# Altium footprint library Isolated-ADCs-PCB.PcbLib: 9 footprints
Each footprint in its own frame and in the unit in brackets; x right, y up, seen from the top. Pads: shape width x height; smd on the part's side, far side on the other; paste and mask are expansions set on the pad; w line width, h text height; cw(c..) or ccw(c..) is an arc to the next point about the centre after c.
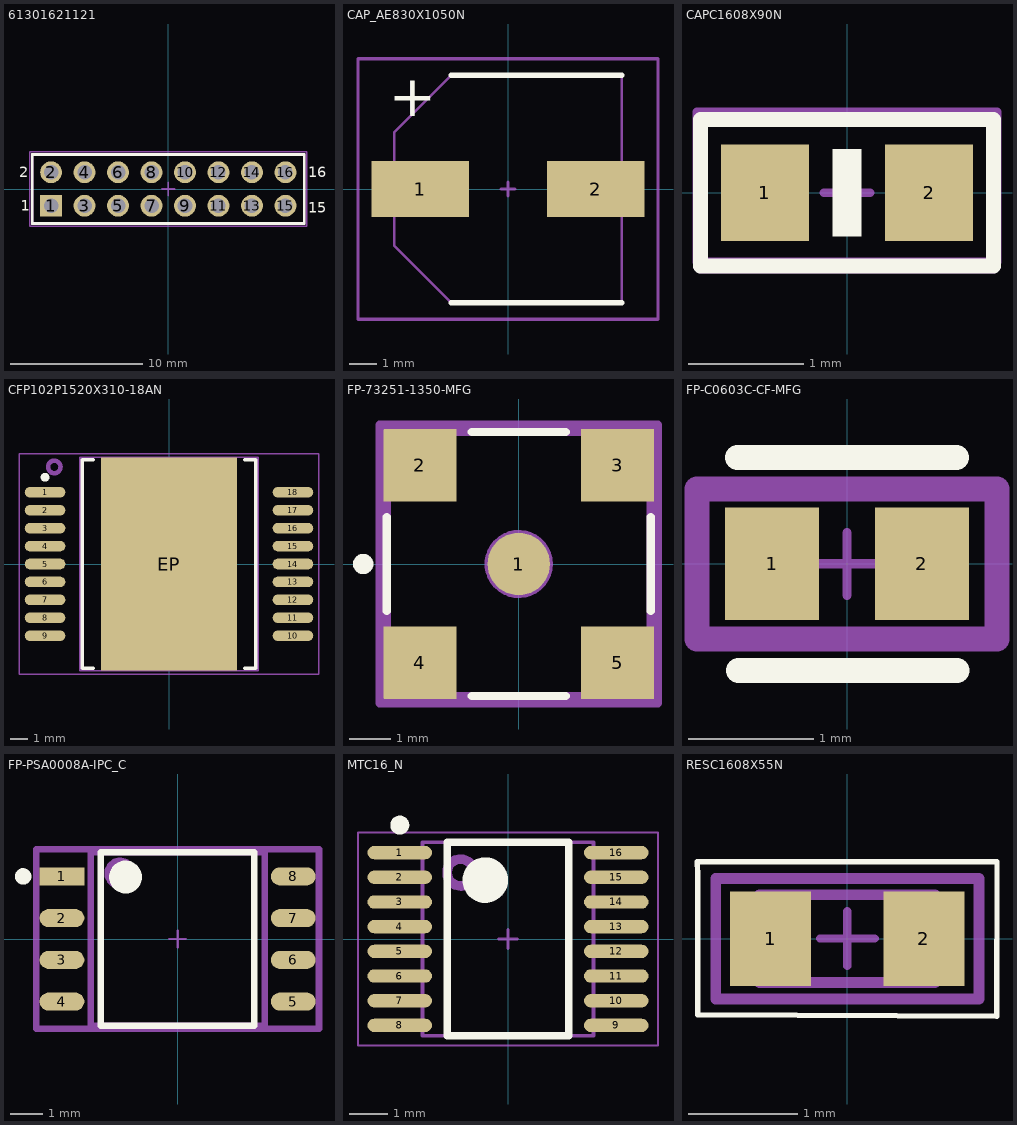
[diagram p0: the footprints below, top view; thin cyan lines are the x and y axes]

## 61301621121 [mm] "Pin Header, pitch 2.54 mm, THT, Vertical, dual row, 16p"
height 8.54
pads (16):
  rect 1.65x1.65 hole 1.1: 1(-8.89,-1.27)
  round 1.65 hole 1.1: 2(-8.89,1.27) 3(-6.35,-1.27) 4(-6.35,1.27) 5(-3.81,-1.27) 6(-3.81,1.27) 7(-1.27,-1.27) 8(-1.27,1.27) 9(1.27,-1.27) 10(1.27,1.27) 11(3.81,-1.27) 12(3.81,1.27) 13(6.35,-1.27) 14(6.35,1.27) 15(8.89,-1.27) 16(8.89,1.27)
Top Overlay:
  lines w0.2: -10.31,-2.615 10.31,-2.615 10.31,2.615 -10.31,2.615 -10.31,-2.615
  text "2" at -11.32,0.9 h0.81
  text "1" at -11.176,-1.651 h0.81
  text "15" at 10.62,-1.8 h0.81
  text "16" at 10.62,0.9 h0.81
Bottom Overlay:
  text "1" at -11.176,-1.651 h0.81
  text "2" at -11.32,0.9 h0.81
  text "16" at 12.12,0.9 h0.81
  text "15" at 12.12,-1.8 h0.81
Top Component Center:
  lines w0.125: -0.5,0 0.5,0 ; 0,-0.5 0,0.5
Top Assembly:
  lines w0.2: -10.31,-2.615 10.31,-2.615 10.31,2.615 -10.31,2.615 -10.31,-2.615
  text "15" at 10.62,-1.8 h0.81
  text "16" at 10.62,0.9 h0.81
  text "1" at -11.176,-1.651 h0.81
  text "2" at -11.32,0.9 h0.81
  text "'.Designator'" at -3.75,3.25 h1.52
Top Courtyard:
  lines w0.125: -10.51,-2.815 -10.51,2.815 10.51,2.815 10.51,-2.815 -10.51,-2.815
3D body "61301621121.stp": height 8.59, standoff -2.95, extent -10.16,-2.54 10.16,2.54

## CAP_AE830X1050N [mm]
pads (2):
  rect 3.55x2.05 smd: 1(-3.2,0) 2(3.2,0)
Top Overlay:
  lines w0.2: -2.075,-4.15 4.15,-4.15 ; -2.075,4.15 4.15,4.15
  text "+" at -4.347,2.652 h1.52
Top Component Center:
  lines w0.125: -0.25,0 0.25,0 ; 0,-0.25 0,0.25
Top Assembly:
  lines w0.1: -4.15,-2.075 -2.075,-4.15 4.15,-4.15 4.15,4.15 -2.075,4.15 -4.15,2.075 -4.15,-2.075
  text "'.Designator'" at -9,4.75 h1.52
  text "+" at -4.406,2.726 h1.52
Top Courtyard:
  lines w0.125: -5.475,-4.75 5.475,-4.75 5.475,4.75 -5.475,4.75 -5.475,-4.75
3D body "865080453012.stp": height 10.5, standoff 0, extent -4.25,-4.25 4.25,4.25

## CAPC1608X90N [mil]
pads (2):
  rect 30x33 smd mask+2: 1(-28,0) 2(28,0)
Top Overlay:
  rectangle: -5,-15 5,15
  lines w5: -50,-25 50,-25 50,25 -50,25 -50,-25
Top Component Center:
  lines w2.95: -7.87,0 7.87,0 ; 0,-7.87 0,7.87
Top Assembly:
  lines w5: -50,-25 50,-25 50,25 -50,25 -50,-25
  text "'.Designator'" at -55.12,39.37 h60
Top Courtyard:
  lines w2.95: -51.18,-23.62 -51.18,27.56 51.18,27.56 51.18,-23.62 -51.18,-23.62
3D body "C1608X6S1C225K080AC.STEP": height 35.43, standoff 0, extent -31.49,-15.75 31.5,15.75

## CFP102P1520X310-18AN [mm]
pads (19):
  oval 2.3x0.6 smd: 1(-7.025,4.064) 2(-7.025,3.048) 3(-7.025,2.032) 4(-7.025,1.016) 5(-7.025,0) 6(-7.025,-1.016) 7(-7.025,-2.032) 8(-7.025,-3.048) 9(-7.025,-4.064) 10(7.025,-4.064) 11(7.025,-3.048) 12(7.025,-2.032) 13(7.025,-1.016) 14(7.025,0) 15(7.025,1.016) 16(7.025,2.032) 17(7.025,3.048) 18(7.025,4.064)
  rect 7.7x12.09 smd paste-5.969: EP(0,0)
Top Overlay:
  circle w0.25: c-7.025,4.914 r0.125
  lines w0.2: -4.3,-5.918 -4.915,-5.918 -4.915,5.918 -4.3,5.918 ; 4.3,-5.918 4.915,-5.918 4.915,5.918 4.3,5.918
Top Paste:
  rectangle: 2.289,-5.711 3.711,-4.289
  rectangle: 2.289,-3.711 3.711,-2.289
  rectangle: 0.289,-5.711 1.711,-4.289
  rectangle: 0.289,-3.711 1.711,-2.289
  rectangle: 2.289,-1.711 3.711,-0.289
  rectangle: 0.289,-1.711 1.711,-0.289
  rectangle: -1.711,-5.711 -0.289,-4.289
  rectangle: -1.711,-3.711 -0.289,-2.289
  rectangle: -3.711,-5.711 -2.289,-4.289
  rectangle: -3.711,-3.711 -2.289,-2.289
  rectangle: -1.711,-1.711 -0.289,-0.289
  rectangle: -3.711,-1.711 -2.289,-0.289
  rectangle: 2.289,0.289 3.711,1.711
  rectangle: 0.289,0.289 1.711,1.711
  rectangle: 2.289,2.289 3.711,3.711
  rectangle: 2.289,4.289 3.711,5.711
  rectangle: 0.289,2.289 1.711,3.711
  rectangle: 0.289,4.289 1.711,5.711
  rectangle: -1.711,0.289 -0.289,1.711
  rectangle: -1.711,2.289 -0.289,3.711
  rectangle: -3.711,0.289 -2.289,1.711
  rectangle: -3.711,2.289 -2.289,3.711
  rectangle: -1.711,4.289 -0.289,5.711
  rectangle: -3.711,4.289 -2.289,5.711
Top Component Center:
  lines w0.075: -0.25,0 0.25,0 ; 0,-0.25 0,0.25
Top Assembly:
  circle w0.254: c-6.5,5.5 r0.354
  lines w0.1: -5.04,-6.045 -5.04,6.045 5.04,6.045 5.04,-6.045 -5.04,-6.045
  text "'.Designator'" at -4.5,7 h1.52
Top Courtyard:
  lines w0.075: -8.5,-6.25 8.5,-6.25 8.5,6.25 -8.5,6.25 -8.5,-6.25
3D body "CFP102P1520X310-18N.step": height 3.1, standoff 0, extent -7.765,-6.045 7.765,6.045

## FP-73251-1350-MFG [mil]
pads (5):
  round 60 smd paste+0 mask+0: 1(0,0)
  rect 70x70 smd paste+0 mask+0: 2(-95,95) 3(95,95) 4(-95,-95) 5(95,-95)
Top Overlay:
  circle w9.84: c-149.61,0 r4.92
  lines w7.87: -126.97,-45.24 -126.97,45.24 ; -45.24,-126.97 45.24,-126.97 ; -45.24,126.97 45.24,126.97 ; 126.97,-45.24 126.97,45.24
Top Component Center:
  lines w2.95: -9.84,0 9.84,0 ; 0,-9.84 0,9.84
Top Assembly:
  circle w10: c0,0 r27.84
  lines w7.87: -126.97,-126.97 -126.97,126.97 126.97,126.97 126.97,-126.97 -126.97,-126.97
  text "'.Designator'" at -167.32,137.8 h60
Top Courtyard:
  lines w7.87: -133.94,-133.94 133.94,-133.94 133.94,133.94 -133.94,133.94 -133.94,-133.94
3D body "Conn_Molex_73251-1350_eec.STEP": height 380.12, standoff 0, extent -125,-125.18 125,125

## FP-C0603C-CF-MFG [mm]
pads (2):
  rect 0.75x0.9 smd paste+0 mask+0: 1(-0.6,0) 2(0.6,0)
Top Overlay:
  lines w0.2: -0.875,0.85 0.875,0.85 ; -0.87,-0.853 0.88,-0.853
Top Component Center:
  lines w0.075: -0.25,0 0.25,0 ; 0,-0.25 0,0.25
Top Assembly:
  lines w0.2: -1.2,-0.6 1.2,-0.6 1.2,0.6 -1.2,0.6 -1.2,-0.6
  text "'.Designator'" at -2,0.5 h1.52
Top Courtyard:
  lines w0.2: -1.2,-0.6 1.2,-0.6 1.2,0.6 -1.2,0.6 -1.2,-0.6
3D body "Cap_KEMET_C0603C272M5JACTU_eec.STEP": height 0.87, standoff 0, extent -0.8,-0.4 0.8,0.4

## FP-PSA0008A-IPC_C [mm]
pads (8):
  rect 1.365x0.546 smd paste+0 mask+0: 1(-3.52,1.905)
  rrect100% 1.365x0.546 smd paste+0 mask+0: 2(-3.52,0.635) 3(-3.52,-0.635) 4(-3.52,-1.905) 5(3.52,-1.905) 6(3.52,-0.635) 7(3.52,0.635) 8(3.52,1.905)
Top Overlay:
  circle w0.5: c-1.588,1.885 r0.25
  circle w0.25: c-4.703,1.905 r0.125
  lines w0.2: -2.338,-2.635 2.338,-2.635 2.338,2.635 -2.338,2.635 -2.338,-2.635
Top Component Center:
  lines w0.075: -0.25,0 0.25,0 ; 0,-0.25 0,0.25
Top Assembly:
  circle w0.254: c-1.75,2 r0.354
  lines w0.2: -2.65,-2.635 -2.65,2.635 2.65,2.635 2.65,-2.635 -2.65,-2.635
  text "'.Designator'" at -2,4 h1.52
Top Courtyard:
  lines w0.2: -4.303,-2.735 4.303,-2.735 4.303,2.735 -4.303,2.735 -4.303,-2.735
3D body "IC_Texas_Instruments_AMC1203BPSA_eec.STEP": height 2, standoff 0, extent -3.95,-2.635 3.95,2.635

## MTC16_N [mm] "TSOP, 16-Leads, Body 5x4.4mm, Pitch 0.65mm, IPC Medium Density"
height 1.1
pads (16):
  oval 1.7x0.35 smd: 1(-2.85,2.275) 2(-2.85,1.625) 3(-2.85,0.975) 4(-2.85,0.325) 5(-2.85,-0.325) 6(-2.85,-0.975) 7(-2.85,-1.625) 8(-2.85,-2.275) 9(2.85,-2.275) 10(2.85,-1.625) 11(2.85,-0.975) 12(2.85,-0.325) 13(2.85,0.325) 14(2.85,0.975) 15(2.85,1.625) 16(2.85,2.275)
Top Overlay:
  circle w0.6: c-0.6,1.55 r0.3
  circle w0.25: c-2.85,3 r0.125
  lines w0.2: -1.6,-2.55 1.6,-2.55 1.6,2.55 -1.6,2.55 -1.6,-2.55
Top Component Center:
  lines w0.075: -0.25,0 0.25,0 ; 0,-0.25 0,0.25
Top Assembly:
  circle w0.254: c-1.25,1.75 r0.354
  lines w0.1: -2.25,-2.55 2.25,-2.55 2.25,2.55 -2.25,2.55 -2.25,-2.55
  text "'.Designator'" at -4.75,-5.5 h1.52
Top Courtyard:
  lines w0.05: -3.95,-2.8 3.95,-2.8 3.95,2.8 -3.95,2.8 -3.95,-2.8
3D body: height 1.1, standoff 0.05, extent -2.25,-2.55 2.25,2.55

## RESC1608X55N [mil]
pads (2):
  rect 29x34 smd mask+2: 1(-27.56,0) 2(27.56,0)
Top Overlay:
  lines w1.97: -53.97,27.6 -53.76,23.64 -53.76,-27.32 53.65,-27.89 53.79,27.6 -53.97,27.6
Top Component Center:
  lines w2.95: -9.84,0 9.84,0 ; 0,-9.84 0,9.84
Top Assembly:
  lines w3.94: -31.5,-15.75 -31.5,15.75 31.5,15.75 31.5,-15.75 -31.5,-15.75
  text "'.Designator'" at -68.9,19.68 h60
Top Courtyard:
  lines w3.94: -47.24,-21.65 47.24,-21.65 47.24,21.65 -47.24,21.65 -47.24,-21.65
3D body "ERJ-PB3D2701V.STEP": height 21.65, standoff 0, extent -31.5,-15.75 31.5,15.75